# EAGLE library part ATARISTCART_M (library F030NG)
ATRI ST cartridge port
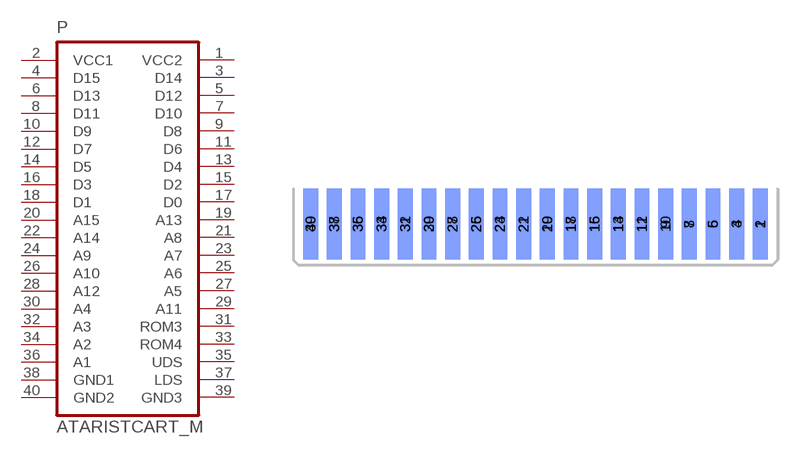
[diagram p88: symbol with the pads of ATARISTCART_M; footprint ATARISTCART_M]

Designator prefix P

## ATARISTCART_M  [ATARISTCART_M]
1  VCC2  pwr
2  VCC1  pwr
3  D14  in
4  D15  in
5  D12  in
6  D13  in
7  D10  in
8  D11  in
9  D8  in
10  D9  in
11  D6  in
12  D7  in
13  D4  in
14  D5  in
15  D2  in
16  D3  in
17  D0  in
18  D1  in
19  A13  out
20  A15  out
21  A8  out
22  A14  out
23  A7  out
24  A9  out
25  A6  out
26  A10  out
27  A5  out
28  A12  out
29  A11  out
30  A4  out
31  ROM3  out
32  A3  out
33  ROM4  out
34  A2  out
35  UDS  out
36  A1  out
37  LDS  out
38  GND1  pwr
39  GND3  pwr
40  GND2  pwr

## Footprint ATARISTCART_M (pad centres in mm)
smd 1.25 x 6: 1 19,3.5; 3 17,3.5; 5 15,3.5; 7 13,3.5; 9 11,3.5; 11 9,3.5; 13 7,3.5; 15 5,3.5; 17 3,3.5; 19 1,3.5; 21 -1,3.5; 23 -3,3.5; 25 -5,3.5; 27 -7,3.5; 29 -9,3.5; 31 -11,3.5; 33 -13,3.5; 35 -15,3.5; 37 -17,3.5; 39 -19,3.5
smd 1.25 x 6 bottom: 2 19,3.5; 4 17,3.5; 6 15,3.5; 8 13,3.5; 10 11,3.5; 12 9,3.5; 14 7,3.5; 16 5,3.5; 18 3,3.5; 20 1,3.5; 22 -1,3.5; 24 -3,3.5; 26 -5,3.5; 28 -7,3.5; 30 -9,3.5; 32 -11,3.5; 34 -13,3.5; 36 -15,3.5; 38 -17,3.5; 40 -19,3.5